# EAGLE library part 691312510024 (library WR-TBL Pluggable Connector)
WR-TBL Serie 312 - 5.08 mm Open Horizontal PCB Header KIND PROPERTIES Pitch 5.08 mm MATERIAL PROPERTIES Insulator Material PA66 Insulator Flammability Rating UL94 V-0 Contact Material Brass Contact Plating Tin GENERAL INFORMATION Operating Temperature -40 up to +105 °C Compliance RoHS ELECTRICAL PROPERTIES IR cULus 20 A IR VDE 20 A Working Voltage [cULus] 300 V (AC) Working Voltage [VDE] 300 V (AC) Withstanding Voltage [cULus] 1600 V (AC) Withstanding Voltage [VDE] 2500 V (AC) Contact Resistance [cULus] 20 mΩ Contact Resistance [VDE] 20 mΩ CERTIFICATION cULus Approval E315414 VDE Approval 40023195 <https://www.we-online.com/catalog/media/o33262v209%20Family_WR-TBL_6913125100xx.jpg> Details see: https://www.we-online.com/catalog/en/TBL_5_08_312_OPEN_HORIZONTAL_PCB_HEADER_6913125100XX/ Updated by Ella Wu 2019-12-26 2022(C) Wurth Elektronik
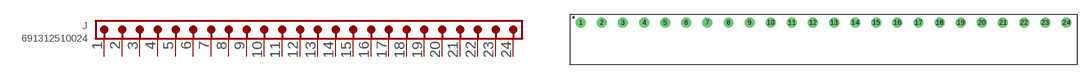
[diagram p344: symbol with the pads of 691312510024; footprint 691312510024]

Designator prefix J

## 691312510024 (DATASHEET-URL: https://www.we-online.com/redexpert/spec/691312510024?ae; IR-UL: 20A; IR-VDE: 20A; MOUNT: THT; PART-NUMBER: 691312510024; PINS: 24; PITCH: 5.08mm; TYPE: Horizontal; VALUE: 691312510024; WORKING-VOLTAGE-UL: 300V (AC); WORKING-VOLTAGE-VDE: 300V (AC))  [691312510024]
1  1  pas
2  2  pas
3  3  pas
4  4  pas
5  5  pas
6  6  pas
7  7  pas
8  8  pas
9  9  pas
10  10  pas
11  11  pas
12  12  pas
13  13  pas
14  14  pas
15  15  pas
16  16  pas
17  17  pas
18  18  pas
19  19  pas
20  20  pas
21  21  pas
22  22  pas
23  23  pas
24  24  pas

## Footprint 691312510024 (pad centres in mm)
WR-TBL Serie 312 - 5.08 mm Open Horizontal PCB Header Max Height = 8.5mm , Pitch 5.08mm , 24pins
drill 1.6: 1 -58.42,0; 2 -53.34,0; 3 -48.26,0; 4 -43.18,0; 5 -38.1,0; 6 -33.02,0; 7 -27.94,0; 8 -22.86,0; 9 -17.78,0; 10 -12.7,0; 11 -7.62,0; 12 -2.54,0; 13 2.54,0; 14 7.62,0; 15 12.7,0; 16 17.78,0; 17 22.86,0; 18 27.94,0; 19 33.02,0; 20 38.1,0; 21 43.18,0; 22 48.26,0; 23 53.34,0; 24 58.42,0